# Altium schematic symbol library 5.0 - 接插件-脚距1.00.SchLib: 2 symbols
Pins are listed as number, name and electrical type; pins without a type are passive.

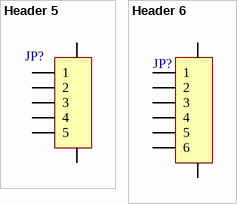
[diagram p0: symbols Header 5 to Header 6]

## Header 5
designator JP?, comment HDR-1X5  (value not drawn)
5P接插件; 联系卖家，免费技术支持: 唯一出售店铺网址https://shop463601444.taobao.com; BOM名称: 5P接插件
footprint SH 1.0-LS-5P
footprint SH 1.0-WS-5P
pins: 0, 0, 1, 2, 3, 4, 5

## Header 6
designator JP?, comment HDR-1X6  (value not drawn)
6P接插件; 联系卖家，免费技术支持: 唯一出售店铺网址https://shop463601444.taobao.com; BOM名称: 6P接插件
footprint SH 1.0-LS-6P
footprint SH 1.0-WS-6P
pins: 0, 0, 1, 2, 3, 4, 5, 6